# Altium integrated library BM10B-NSHSS-TBT.IntLib: 1 symbol
Pins are listed as number, name and electrical type; pins without a type are passive.

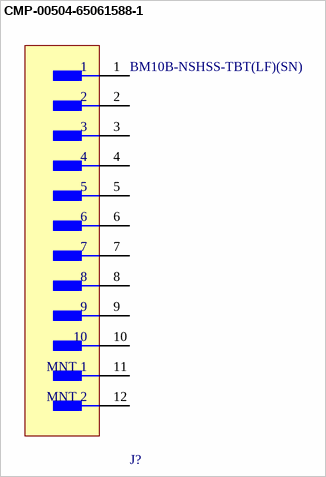
[diagram p0: symbol CMP-00504-65061588-1]

## CMP-00504-65061588-1
designator J?, comment BM10B-NSHSS-TBT(LF)(SN)
BM10B-NSHSS-TBT(LF)(SN) Connector Header, 10 Position, 1.00mm, 50V, Shrouded - 4 wall, Latch Holder, Natural; NexarPartId: 65061588; Pitch: 990.6µm; Number of Contacts: 10; Current Rating: 1A; Connector Type: Outer Shroud Contact; Fastening Type: Latch; Packaging: Tape & Reel (TR); Contact Material: Copper, Tin; Max Operating Temperature: 85°C; Lead Free: Lead Free; Contact Plating: Tin; Number of Positions: 10; Color: Natural; RoHS: Compliant; Min Operating Temperature: -25°C; Height: 6mm; Voltage Rating: 50V; Number of Rows: 1; Termination: Solder; Mount: Surface Mount
footprint FP-BM10B-NSHSS-TBT_LF_S-MFG
pins: 1, 2, 3, 4, 5, 6, 7, 8, 9, 10, 11 MNT 1, 12 MNT 2